# EAGLE library part 678005025 (library Sala-Eng-Molex)
Molex 678005025 Veritical Mount SMD Sata connector
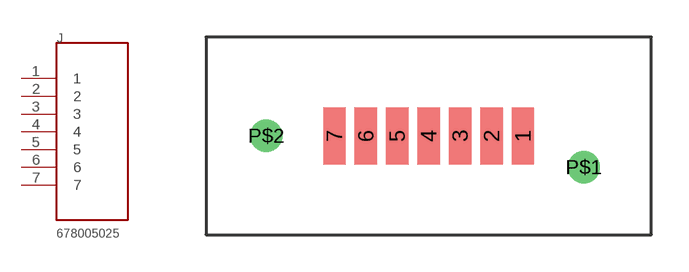
[diagram p1: symbol with the pads of 678005025; footprint 678005025]

Designator prefix J

## 678005025 (MAN-PART-NUM: 678005025; MANUFACTURER: Molex)  [678005025]
1  1
2  2
3  3
4  4
5  5
6  6
7  7

## Footprint 678005025 (pad centres in mm)
Molex 678005025 Vertical Mount SATA Connector
smd 0.9 x 2.3: 1 3.81,0; 2 2.54,0; 3 1.27,0; 4 0,0; 5 -1.27,0; 6 -2.54,0; 7 -3.81,0
drill 0.8: P$1 6.27,-1.27; P$2 -6.56,0